# EAGLE library part B16B-PUDSS-1 (library con-jst-pud)
JST connector, PUD series, 2.0mm spacing, crimp style, wire-to-board, 16 pin, top entry (with boss)
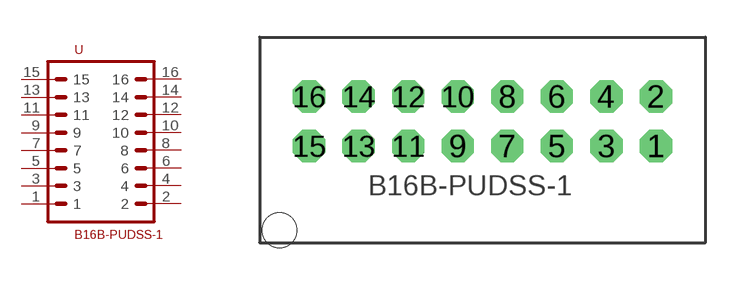
[diagram p12: symbol with the pads of PUD_16_PIN_TOP_ENTRY; footprint PUD_16_PIN_TOP_ENTRY]

Designator prefix -

## B16B-PUDSS-1 (DIGIKEY: 455-2503-ND; MF: JST; MPN: B16B-PUDSS-1)  [PUD_16_PIN_TOP_ENTRY]
1  1
2  2
3  3
4  4
5  5
6  6
7  7
8  8
9  9
10  10
11  11
12  12
13  13
14  14
15  15
16  16

## Footprint PUD_16_PIN_TOP_ENTRY (pad centres in mm)
drill 0.8 octagon: 1 7,0; 2 7,2; 3 5,0; 4 5,2; 5 3,0; 6 3,2; 7 1,0; 8 1,2; 9 -1,0; 10 -1,2; 11 -3,0; 12 -3,2; 13 -5,0; 14 -5,2; 15 -7,0; 16 -7,2
hole 1.4 at -8.2,-3.4